# Altium footprint library 2010_R.PcbLib: 1 footprints
Each footprint in its own frame and in the unit in brackets; x right, y up, seen from the top. Pads: shape width x height; smd on the part's side, far side on the other; paste and mask are expansions set on the pad; w line width, h text height; cw(c..) or ccw(c..) is an arc to the next point about the centre after c.
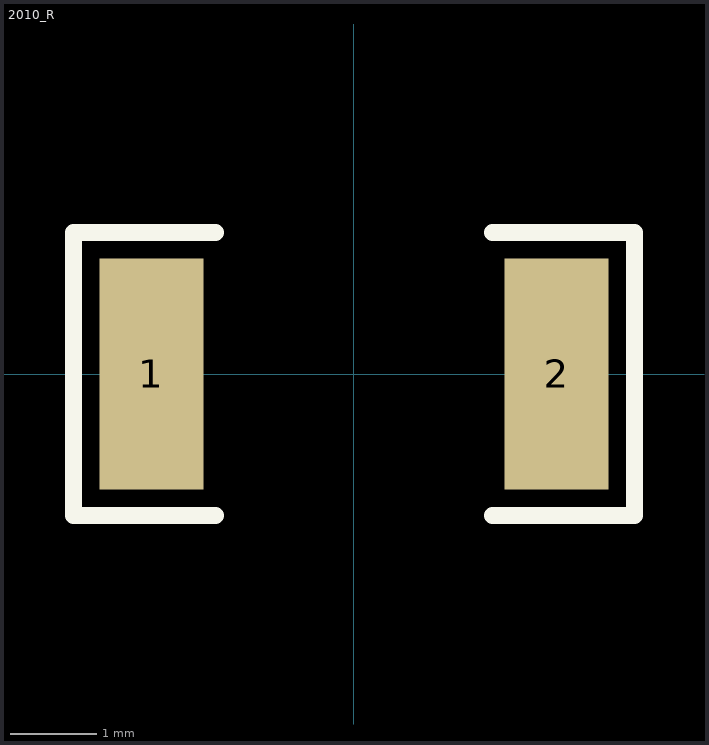
[diagram p0: the footprint, top view; thin cyan lines are the x and y axes]

## 2010_R [mm]
pads (2):
  rect 1.2x2.67 smd: 1(-2.34,0) 2(2.34,0)
Top Overlay:
  lines w0.2: -1.6,-1.635 -3.24,-1.635 -3.24,1.635 -1.6,1.635 ; 1.6,-1.635 3.24,-1.635 3.24,1.635 1.6,1.635
3D body: height 0.6, standoff 0, extent -2.5,-1.25 2.5,1.25